# EAGLE library part DUAL-OPTOISOLATOR (library SparkFun-DiscreteSemi)
Optocoupler, Phototransistor Output, Dual Channel Optically coupled pairs with a gallium arsenide infrared LED and a silicon NPN phototransistor. Signal information, including a DC level, can be transmitted by the device while maintaining a high degree of electrical isolation between input and output. Datasheet <https://www.sparkfun.com/datasheets/Components/SMD/ild205t.pdf> SparkFun Products: SparkFun Opto-isolator Breakout <https://www.sparkfun.com/products/9118>
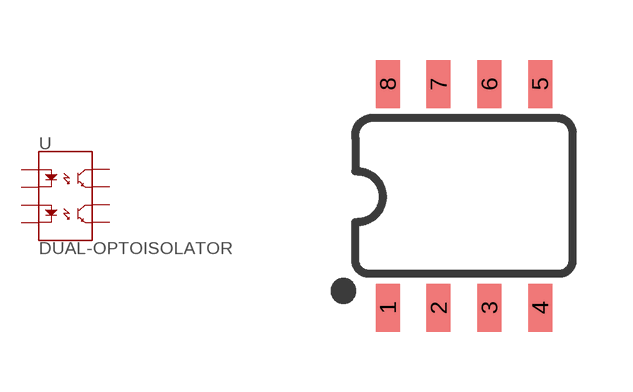
[diagram p2: symbol with the pads of SO08; footprint SO08]

Designator prefix U

## DUAL-OPTOISOLATOR_SOIC8 (PROD_ID: IC-09076)  [SO08]
1  A1
2  C1
3  A2
4  C2
5  EM2
6  CL2
7  EM1
8  CL1

## Footprint SO08 (pad centres in mm)
SOIC, 0.15 inch width
smd 0.6 x 1.2: 1 -1.905,-2.8; 2 -0.635,-2.8; 3 0.635,-2.8; 4 1.905,-2.8; 5 1.905,2.8; 6 0.635,2.8; 7 -0.635,2.8; 8 -1.905,2.8